# Altium schematic symbol library FTSH-107-04-L-D.SchLib: 1 symbol
Pins are listed as number, name and electrical type; pins without a type are passive.

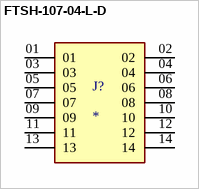
[diagram p0: symbol FTSH-107-04-L-D]

## FTSH-107-04-L-D
designator J?
MF: Samtec Inc.; MP: FTSH-107-04-L-D; Package: None; Price: None; Value: *; Availability: Unavailable
footprint SAMTEC_FTSH-107-04-L-D
pins: 01, 02, 03, 04, 05, 06, 07, 08, 09, 10, 11, 12, 13, 14